# Altium footprint library PCB - LEADLESS - SON - INFINEON PG-TSON-8-1 3X3.PcbLib: 1 footprints
Each footprint in its own frame and in the unit in brackets; x right, y up, seen from the top. Pads: shape width x height; smd on the part's side, far side on the other; paste and mask are expansions set on the pad; w line width, h text height; cw(c..) or ccw(c..) is an arc to the next point about the centre after c.
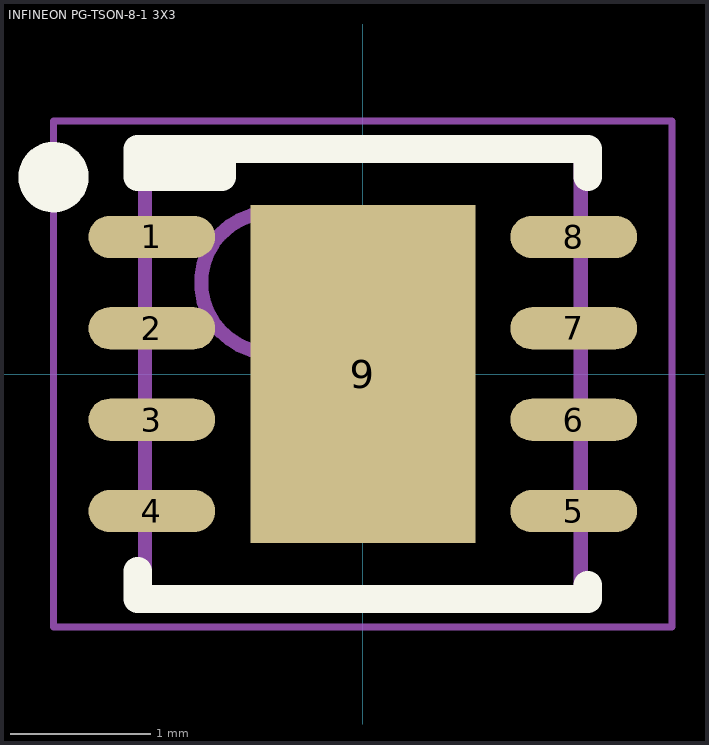
[diagram p0: the footprint, top view; thin cyan lines are the x and y axes]

## INFINEON PG-TSON-8-1 3X3 [mm] "TSON, 8-Leads, Body 3.00x3.00mm, Pitch 0.65mm, Thermal Pad 1.60x2.40mm"
height 1.1
pads (9):
  oval 0.9x0.3 smd: 1(-1.5,0.975) 2(-1.5,0.325) 3(-1.5,-0.325) 4(-1.5,-0.975) 5(1.5,-0.975) 6(1.5,-0.325) 7(1.5,0.325) 8(1.5,0.975)
  rect 1.6x2.4 smd: 9(0,0)
Top Overlay:
  circle w0.25: c-2.2,1.4 r0.125
  rectangle: -1.6,1.4 -1,1.6
  lines w0.2: -1.6,-1.4 -1.6,-1.6 1.6,-1.6 1.6,-1.5 ; -1,1.6 -1,1.4 -1.6,1.4 -1.6,1.6 1.6,1.6 1.6,1.5 1.6,1.4
Mechanical 13:
  circle w0.1: c-0.65,0.65 r0.5
  lines w0.1: -1.55,-1.55 -1.55,1.55 1.55,1.55 1.55,-1.55 -1.55,-1.55
Mechanical 15:
  lines w0.05: -2.2,-1.8 -2.2,1.8 2.2,1.8 2.2,-1.8 -2.2,-1.8
  lines w0.1: -0.5,0 0.5,0 ; 0,-0.5 0,0.5
3D body "INFINEON PG-TSON-8-1 3X3.step": height 1.1, standoff 0, extent -1.56,-1.55 1.56,1.55